# Altium footprint library 主板.PcbLib: 37 footprints (part 3 of 3)
Each footprint in its own frame and in the unit in brackets; x right, y up, seen from the top. Pads: shape width x height; smd on the part's side, far side on the other; paste and mask are expansions set on the pad; w line width, h text height; cw(c..) or ccw(c..) is an arc to the next point about the centre after c.
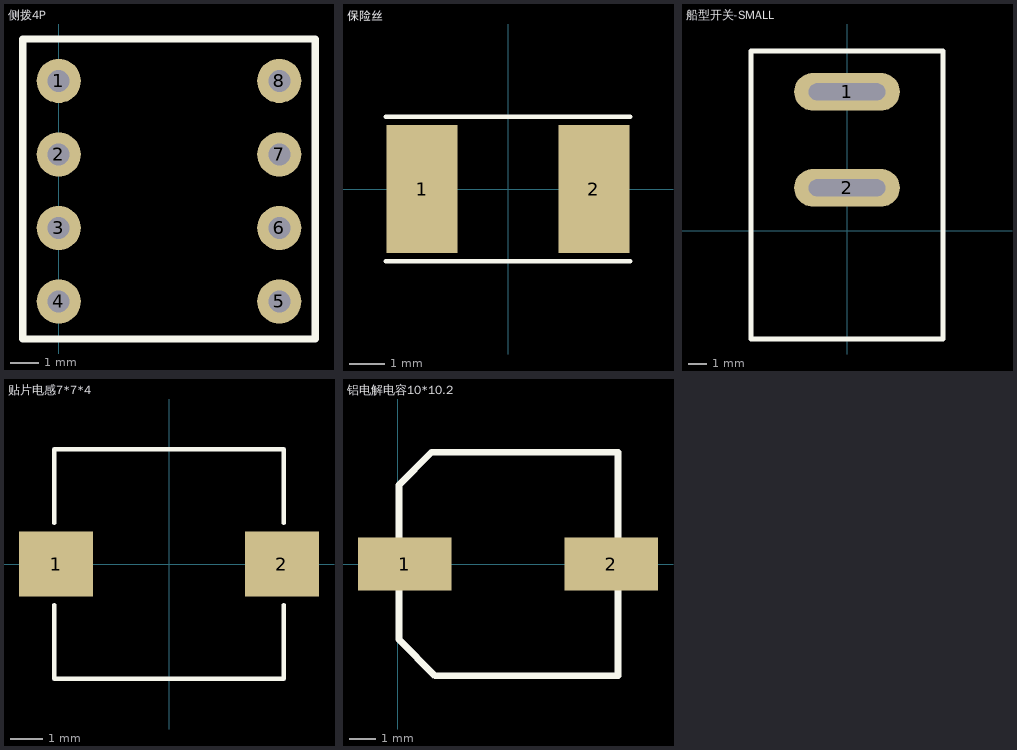
[diagram p2: the footprints below, top view; thin cyan lines are the x and y axes]

## 侧拨4P [mil]
pads (8):
  round 60 hole 30: 1(0,-100) 2(0,-200) 3(0,-300) 4(0,-400) 5(300,-400) 6(300,-300) 7(300,-200) 8(300,-100)
Top Overlay:
  lines w10: -49,-451 349,-451 349,-43 -49,-43 -49,-451

## 保险丝 [mm]
pads (2):
  rect 2x3.6 smd: 1(-2.413,0) 2(2.413,0)
Top Overlay:
  lines w0.127: -3.429,-2.032 3.429,-2.032 ; -3.429,2.032 3.429,2.032

## 船型开关-SMALL [mil]
pads (2):
  oval 220x78.74 hole 35 slot 160 at 0 deg: 1(0,290) 2(0,90)
Top Overlay:
  lines w10: -200,-225 -200,375 200,375 200,-225 -200,-225

## 贴片电感7*7*4 [mm]
pads (2):
  rect 2.3x2 smd: 1(-3.5,0) 2(3.5,0)
Top Overlay:
  lines w0.127: -3.556,-1.27 -3.556,-3.556 0,-3.556 3.556,-3.556 3.556,-1.27 ; -3.556,1.27 -3.556,3.556 0,3.556 3.556,3.556 3.556,1.27

## 铝电解电容10*10.2 [mm]
pads (2):
  rect 3.5x2 smd: 1(0.254,0) 2(8.001,0)
Top Overlay:
  lines w0.254: 0.037,-2.831 0.037,-2.01 0.037,2.958 1.27,4.191 8.255,4.191 8.255,-4.191 1.397,-4.191 0.037,-2.831